# Altium schematic symbol library stm32l552_launchpad.SCHLIB: 95 symbols (part 2 of 2)
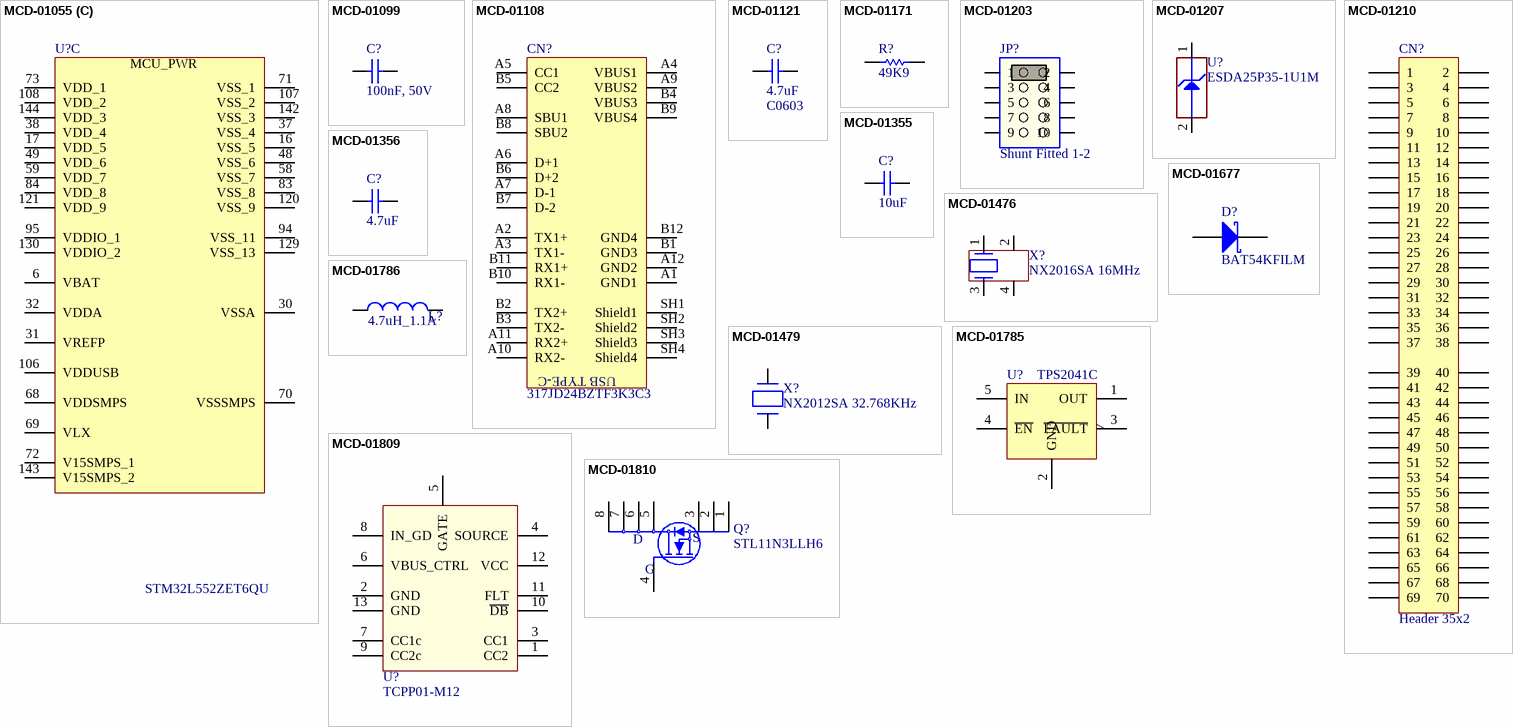
[diagram p3: symbols MCD-01055 to MCD-01810]

## MCD-01785
designator U?, comment TPS2041C
5V Power Switch, 0.85A, RDSon 130mOhm max, with active low enable pin; Internal_Part_Number: MCD-01785; Part_Type: IC; Manufacturer_Part_Number: TPS2041CDBVT; Manufacturer: TEXAS INSTRUMENTS; ECCN_US: EAR99; ECCN_EU: NEC; Provided_By: SUBCO; Value: TPS2041C; Status: Footprint available; Package: SOT23_5p; ComponentLink1Description: Datasheet; ComponentLink1URL: http://tunmcdsvn.tun.st.com/Component_Datasheet_Library/Trunk/IC/TI_PWR_SWITCH_5V_TPS20xxC
footprint MOS_SOT23-5L
pins: 1 OUT, 2 GND, 3 ~{FAULT}, 4 ~{EN}, 5 IN

## MCD-01786
designator L?, comment value 4.7uH_1.1A  (hidden comment: Inductor)
Power Inductor 4.7uH 1.1A 160 mOHM 20% SMD Multilayer ferrite.; Internal_Part_Number: MCD-01786; Manufacturer_Part_Number: MLP2016H4R7MT0S1; Manufacturer: TDK; Provided_By: SUBCO; Status: Checked; Part_Type: Inductor; Package: L0806; ComponentLink1Description: Datasheet; ComponentLink1URL: http://tunmcdsvn.tun.st.com/Component_Datasheet_Library/Trunk/Inductors/TDK_Power_inductor_MLP2016_series; ECCN_US: n/a; ECCN_EU: n/a
footprint IND_TDK_MLP2016H4R7MT0S1
pins: 1, 2

## MCD-01809
designator U?, comment TCPP01-M12
USB Type-C Port Protection for USB Power Delivery, PPS compliant; Internal_Part_Number: MCD-01809; Part_Type: IC; Manufacturer: STMICROELECTRONICS; ECCN_US: EAR99; ECCN_EU: NEC; Provided_By: SUBCO with ST control; Value: TCPP01-M12; Status: Checked; Manufacturer_Part_Number: TCPP01-M12; Package: QFN-12L; ComponentLink1Description: Datasheet; ComponentLink1URL: http://tunmcdsvn.tun.st.com/Component_Datasheet_Library/Trunk/IC/STM_UCPD_Protection_TCPP01-M12
footprint ICC_QFN12L-EPAD_3X3_P050
pins: 1 CC2, 2 GND, 3 CC1, 4 SOURCE, 5 GATE, 6 VBUS_CTRL, 7 CC1c, 8 IN_GD, 9 CC2c, 10 ~{DB}, 11 FLT, 12 VCC, 13 GND

## MCD-01810
designator Q?, comment STL11N3LLH6
N-channel 30 V, 6 mΩ typ, 11 A STripFET™ H6, Power MOSFET in a PowerFLAT™ 3.3x3.3 package; Internal_Part_Number: MCD-01810; Part_Type: IC; Manufacturer: STMICROELECTRONICS; ECCN_US: EAR99; ECCN_EU: NEC; Provided_By: SUBCO with ST control; Value: STL11N3LLH6; Status: Checked; Manufacturer_Part_Number: STL11N3LLH6; Package: PowerFLAT 3.3x3.3; ComponentLink1Description: Datasheet; ComponentLink1URL: http://tunmcdsvn.tun.st.com/Component_Datasheet_Library/Trunk/IC/STM_POWER_MOSFET_STL11N3LLH6
footprint MOS_POWERFLAT_3P3X3P3_P065
pins: 1 S, 2 S, 3 S, 4 G, 5 D, 6 D, 7 D, 8 D